# EAGLE library part AD5662 (library RHD2000_eval_board)
Analog Devices AD5662 16-bit DAC
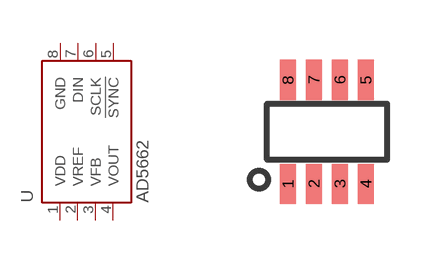
[diagram p4: symbol with the pads of SOT-23-RJ-8; footprint SOT-23-RJ-8]

Designator prefix U

## AD5662-SOT-23  [SOT-23-RJ-8]
1  VDD  pwr
2  VREF  in
3  VFB  pas
4  VOUT  out
5  !SYNC!  in
6  SCLK  in
7  DIN  in
8  GND  pwr

## Footprint SOT-23-RJ-8 (pad centres in mm)
smd 0.4 x 1: 1 -0.975,-1.3; 2 -0.325,-1.3; 3 0.325,-1.3; 4 0.975,-1.3; 5 0.975,1.3; 6 0.325,1.3; 7 -0.325,1.3; 8 -0.975,1.3